# Altium schematic symbol library SamacSys.SchLib: 3 symbols
Pins are listed as number, name and electrical type; pins without a type are passive.

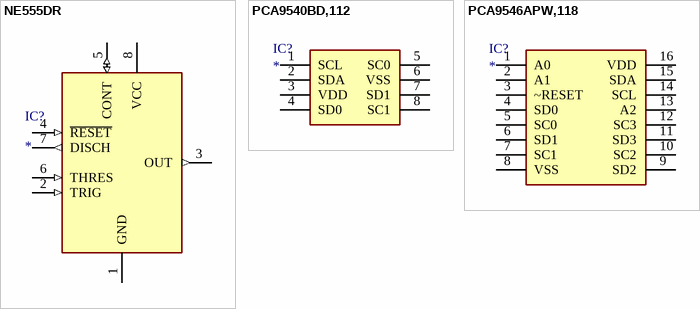
[diagram p0: symbols NE555DR to PCA9546APW,118]

## NE555DR
designator IC?
Integrated Circuit; Manufacturer_Name: Texas Instruments; Manufacturer_Part_Number: NE555DR; Datasheet Link: http://www.ti.com/lit/ds/symlink/ne555.pdf; Height: 1.75mm; Mouser Part Number: 595-NE555DR; Mouser Price/Stock: https://www.mouser.com/Search/Refine.aspx?Keyword=595-NE555DR; RS Part Number: 1218414; RS Price/Stock: http://uk.rs-online.com/web/p/products/1218414
footprint SOIC127P600X175-8N
footprint SOIC-8
pins: 1 GND (power), 2 TRIG (in), 3 OUT (out), 4 ~{RESET} (in), 5 CONT (io), 6 THRES (in), 7 DISCH (out), 8 VCC (power)

## PCA9540BD,112
designator IC?
Integrated Circuit; Manufacturer_Name: Nexperia; Manufacturer_Part_Number: PCA9540BD,112; Description: 2-channel I2C-bus multiplexer; Datasheet Link: https://componentsearchengine.com/Datasheets/1/PCA9540BD,112.pdf; Mouser Part Number: 771-PCA9540BD112; Mouser Price/Stock: https://www.mouser.com/Search/Refine.aspx?Keyword=771-PCA9540BD112
footprint SOIC127P600X175-8N
pins: 1 SCL, 2 SDA, 3 VDD, 4 SD0, 5 SC0, 6 VSS, 7 SD1, 8 SC1

## PCA9546APW,118
designator IC?
Integrated Circuit; Manufacturer_Name: Nexperia; Manufacturer_Part_Number: PCA9546APW,118; Description: 4-channel I2C-bus switch with reset; Datasheet Link: https://componentsearchengine.com/Datasheets/1/PCA9546APW,118.pdf; Mouser Part Number: 771-PCA9546APW-T; Mouser Price/Stock: https://www.mouser.com/Search/Refine.aspx?Keyword=771-PCA9546APW-T
footprint SOP65P640X110-16N
pins: 1 A0, 2 A1, 3 ~RESET, 4 SD0, 5 SC0, 6 SD1, 7 SC1, 8 VSS, 9 SD2, 10 SC2, 11 SD3, 12 SC3, 13 A2, 14 SCL, 15 SDA, 16 VDD